# EAGLE library part IC_CPLD_LC4032V (library dp_devices)
32 Macrocells 3.3V CPLD
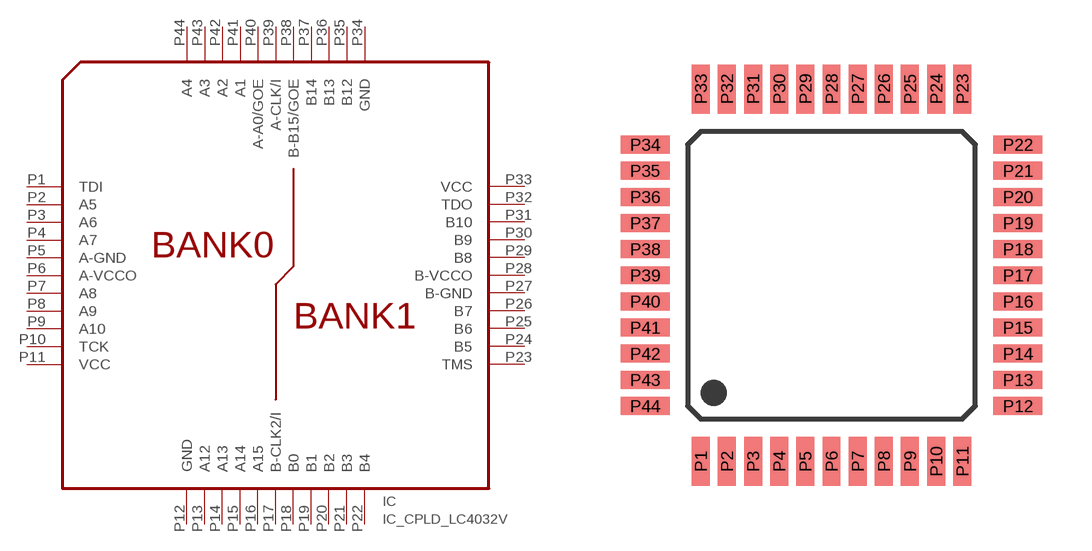
[diagram p30: symbol with the pads of TQFP-44; footprint TQFP-44]

Designator prefix IC

## IC_CPLD_LC4032V-TQFP44  [TQFP-44]
P1  TDI  in
P2  A5
P3  A6
P4  A7
P5  A-GND
P6  A-VCCO
P7  A8
P8  A9
P9  A10
P10  TCK  in
P11  VCC
P12  GND
P13  A12
P14  A13
P15  A14
P16  A15
P17  B-CLK2/I
P18  B0
P19  B1
P20  B2
P21  B3
P22  B4
P23  TMS  in
P24  B5
P25  B6
P26  B7
P27  B-GND
P28  B-VCCO
P29  B8
P30  B9
P31  B10
P32  TDO  out
P33  VCC
P34  GND
P35  B12
P36  B13
P37  B14
P38  B-B15/GOE
P39  A-CLK/I
P40  A-A0/GOE
P41  A1
P42  A2
P43  A3
P44  A4

## Footprint TQFP-44 (pad centres in mm)
smd 0.55 x 1.5: P1 -4,-5.7; P2 -3.2,-5.7; P3 -2.4,-5.7; P4 -1.6,-5.7; P5 -0.8,-5.7; P6 0,-5.7; P7 0.8,-5.7; P8 1.6,-5.7; P9 2.4,-5.7; P10 3.2,-5.7; P11 4,-5.7; P23 4,5.7; P24 3.2,5.7; P25 2.4,5.7; P26 1.6,5.7; P27 0.8,5.7; P28 0,5.7; P29 -0.8,5.7; P30 -1.6,5.7; P31 -2.4,5.7; P32 -3.2,5.7; P33 -4,5.7
smd 1.5 x 0.55: P12 5.7,-4; P13 5.7,-3.2; P14 5.7,-2.4; P15 5.7,-1.6; P16 5.7,-0.8; P17 5.7,0; P18 5.7,0.8; P19 5.7,1.6; P20 5.7,2.4; P21 5.7,3.2; P22 5.7,4; P34 -5.7,4; P35 -5.7,3.2; P36 -5.7,2.4; P37 -5.7,1.6; P38 -5.7,0.8; P39 -5.7,0; P40 -5.7,-0.8; P41 -5.7,-1.6; P42 -5.7,-2.4; P43 -5.7,-3.2; P44 -5.7,-4